# Altium footprint library Con_PCB_LIB.PcbLib: 44 footprints (part 3 of 3)
Each footprint in its own frame and in the unit in brackets; x right, y up, seen from the top. Pads: shape width x height; smd on the part's side, far side on the other; paste and mask are expansions set on the pad; w line width, h text height; cw(c..) or ccw(c..) is an arc to the next point about the centre after c.
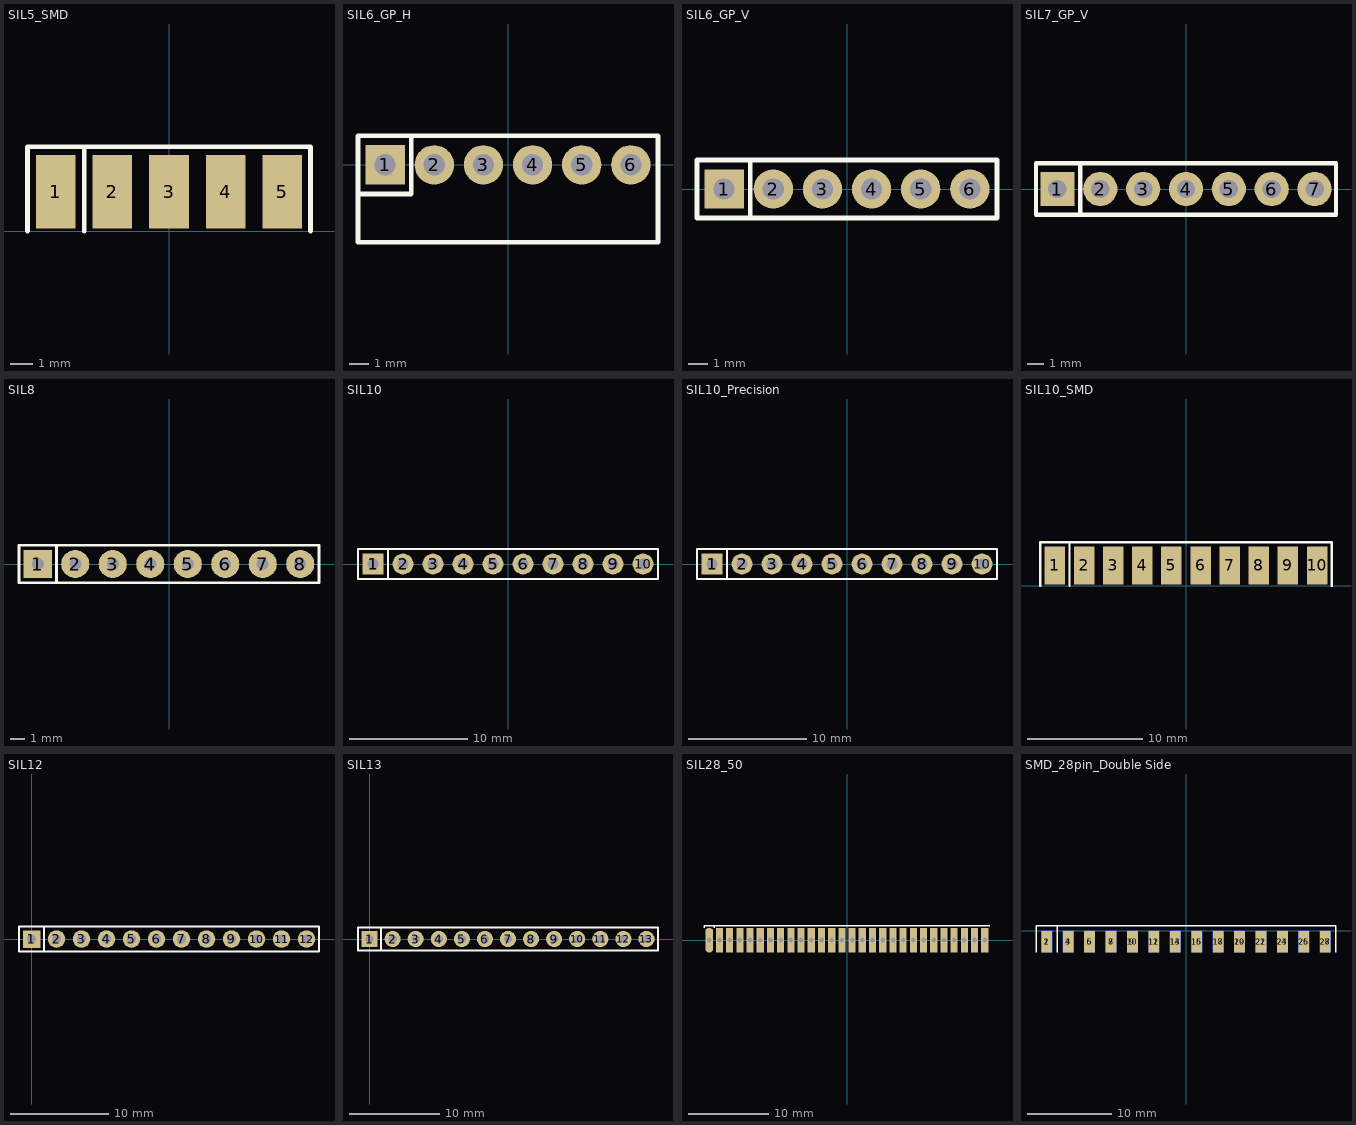
[diagram p2: the footprints below, top view; thin cyan lines are the x and y axes]

## SIL5_SMD [mil] "Obudowa szeregowa 5pin SMD"
pads (5):
  rect 70x130 smd: 1(-200,70) 2(-100,70) 3(0,70) 4(100,70) 5(200,70)
Top Overlay:
  lines w8: -250,0 -250,150 250,150 250,0 ; -150,0 -150,150

## SIL6_GP_H [mil] "Obudowa szeregowa SIP 6pin"
height 150
pads (6):
  rect 80x80 hole 43: 1(-250,0)
  round 80 hole 43: 2(-150,0) 3(-50,0) 4(50,0) 5(150,0) 6(250,0)
Top Overlay:
  lines w10: -305.12,-59.06 -196.85,-59.06 -196.85,59.06 ; -305.12,-157.48 -305.12,-49.21 -305.12,59.06 305.12,59.06 305.12,-49.21 305.12,-157.48 -305.12,-157.48
3D body "6pin_angle.STEP": height 103.51, standoff -139.94, extent -300.1,-378.78 300.1,15

## SIL6_GP_V [mil] "Goldpin 6PIN pionowe"
height 350
pads (6):
  rect 80x80 hole 43: 1(-250,0)
  round 80 hole 43: 2(-150,0) 3(-50,0) 4(50,0) 5(150,0) 6(250,0)
Top Overlay:
  lines w10: -196.85,59.06 -196.85,-59.06 ; -196.85,-59.06 -305.12,-59.06 -305.12,59.06 305.12,59.06 305.12,-59.06 -196.85,-59.06
3D body "6pin_straight.STEP": height 308.74, standoff -118.11, extent -300.09,-50.09 300.1,52.52

## SIL7_GP_V [mil] "Goldpin pionowy 7 pin"
height 350
pads (7):
  rect 80x80 hole 43: 1(-300,0)
  round 80 hole 43: 2(-200,0) 3(-100,0) 4(0,0) 5(100,0) 6(200,0) 7(300,0)
Top Overlay:
  lines w10: -246.85,-59.06 -246.85,59.06 ; 350,-60 -246.85,-60 -350,-60 -350,60 350,60 350,-59.06
3D body "7pin_straight.STEP": height 323.74, standoff -103.11, extent -350.09,-52.09 350.1,50.99

## SIL8 [mil] "Obudowa szeregowa SIP 8pin"
pads (8):
  rect 75x75 hole 32: 1(-350,0)
  round 75 hole 32: 2(-250,0) 3(-150,0) 4(-50,0) 5(50,0) 6(150,0) 7(250,0) 8(350,0)
Top Overlay:
  lines w7: -300,-50 -300,50 ; -400,-50 400,-50 400,50 -400,50 -400,-50

## SIL10 [mil] "Obudowa szeregowa 10p"
pads (10):
  rect 70x70 hole 36: 1(-450,0)
  round 70 hole 36: 2(-350,0) 3(-250,0) 4(-150,0) 5(-50,0) 6(50,0) 7(150,0) 8(250,0) 9(350,0) 10(450,0)
Top Overlay:
  lines w8: -400,-50 -400,50 ; -500,-50 -500,50 500,50 500,-50 -500,-50
3D body "10pin_straight.STEP": height 325.74, standoff -101.11, extent -500,-52 500.19,52.53

## SIL10_Precision [mil] "Podstawka precyzyjna 10 pin"
height 7874.02
pads (10):
  rect 70x70 hole 36: 1(-450,0)
  round 70 hole 36: 2(-350,0) 3(-250,0) 4(-150,0) 5(-50,0) 6(50,0) 7(150,0) 8(250,0) 9(350,0) 10(450,0)
Top Overlay:
  lines w8: -400,-50 -400,50 ; -500,-50 500,-50 500,50 -500,50 -500,-50
3D body "precision_10_pin.STEP": height 167.36, standoff -122.64, extent -500,-50 500,50

## SIL10_SMD [mil] "Obudowa szeregowa 10pin SMD"
pads (10):
  rect 70x130 smd: 1(-450,70) 2(-350,70) 3(-250,70) 4(-150,70) 5(-50,70) 6(50,70) 7(150,70) 8(250,70) 9(350,70) 10(450,70)
Top Overlay:
  lines w8: -500,0 -500,150 500,150 500,0 ; -400,0 -400,150

## SIL12 [mil] "Obudowa szeregowa 12pin"
pads (12):
  rect 70x70 hole 36: 1(0,0)
  round 70 hole 36: 2(100,0) 3(200,0) 4(300,0) 5(400,0) 6(500,0) 7(600,0) 8(700,0) 9(800,0) 10(900,0) 11(1000,0) 12(1100,0)
Top Overlay:
  lines w8: 50,-50 50,50 ; -50,-50 1150,-50 1150,50 -50,50 -50,-50
3D body "12pin_straight.STEP": height 323.74, standoff -103.11, extent -50,-52 1150.19,53.5

## SIL13 [mil] "Obudowa szeregowa 13pin"
pads (13):
  rect 70x70 hole 36: 1(0,0)
  round 70 hole 36: 2(100,0) 3(200,0) 4(300,0) 5(400,0) 6(500,0) 7(600,0) 8(700,0) 9(800,0) 10(900,0) 11(1000,0) 12(1100,0) 13(1200,0)
Top Overlay:
  lines w8: 50,-50 50,50 ; -50,-50 -50,50 1250,50 1250,-50 -50,-50

## SIL28_50 [mil] "SIL 28pin raster 50mils"
pads (28):
  oct 35x120 hole 23: 1(-675,0)
  rect 35x120 hole 23: 2(-625,0) 3(-575,0) 4(-525,0) 5(-475,0) 6(-425,0) 7(-375,0) 8(-325,0) 9(-275,0) 10(-225,0) 11(-175,0) 12(-125,0) 13(-75,0) 14(-25,0) 15(25,0) 16(75,0) 17(125,0) 18(175,0) 19(225,0) 20(275,0) 21(325,0) 22(375,0) 23(425,0) 24(475,0) 25(525,0) 26(575,0) 27(625,0) 28(675,0)
Top Overlay:
  lines w7: -700,60 -700,70 700,70 ; -650,60 -650,70

## SMD_28pin_Double Side [mil] "SMD dwustronny pod goldpiny"
height 50
pads (28):
  rect 50x100 smd: 1(-650,-50) 3(-550,-50) 5(-450,-50) 7(-350,-50) 9(-250,-50) 11(-150,-50) 13(-50,-50) 15(50,-50) 17(150,-50) 19(250,-50) 21(350,-50) 23(450,-50) 25(550,-50) 27(650,-50)
  rect 50x100 smd far side: 2(-650,-50) 4(-550,-50) 6(-450,-50) 8(-350,-50) 10(-250,-50) 12(-150,-50) 14(-50,-50) 16(50,-50) 18(150,-50) 20(250,-50) 22(350,-50) 24(450,-50) 26(550,-50) 28(650,-50)
Top Overlay:
  lines w7: -700,-100 -700,25 700,25 700,-100 ; -600,-100 -600,25